# Altium schematic symbol library TRANS-NPN-EBC.SCHLIB: 1 symbol
Pins are listed as number, name and electrical type; pins without a type are passive.

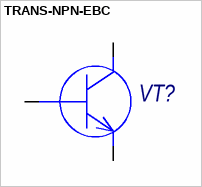
[diagram p0: symbol TRANS-NPN-EBC]

## TRANS-NPN-EBC
designator VT?
pins: 1 E, 2 B, 3 C